# Altium footprint library IDC-2x50_2mm.PcbLib: 1 footprints
Each footprint in its own frame and in the unit in brackets; x right, y up, seen from the top. Pads: shape width x height; smd on the part's side, far side on the other; paste and mask are expansions set on the pad; w line width, h text height; cw(c..) or ccw(c..) is an arc to the next point about the centre after c.
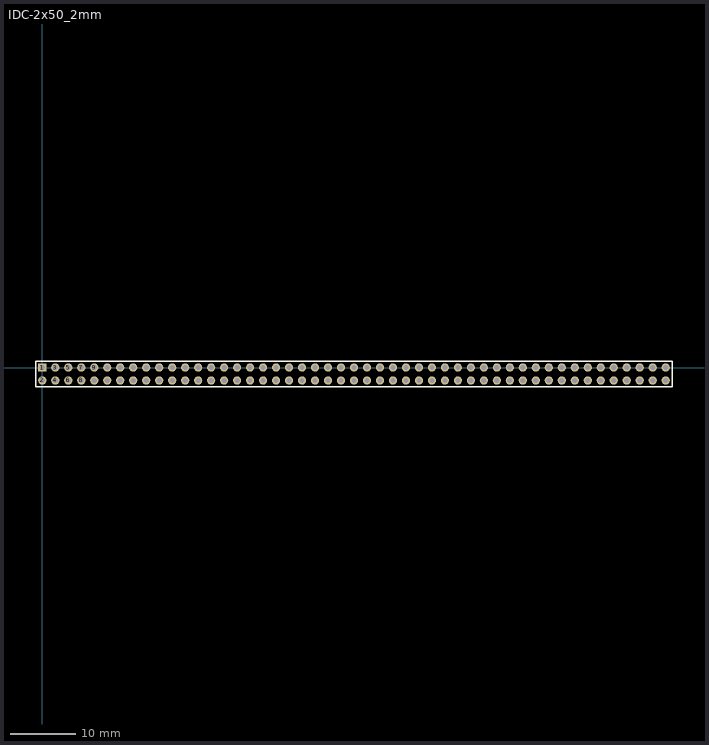
[diagram p0: the footprint, top view; thin cyan lines are the x and y axes]

## IDC-2x50_2mm [mm]
pads (98):
  rect 1.27x1.27 hole 0.813: 1(0,0)
  round 1.27 hole 0.813: 2(0,-2) 3(2,0) 4(2,-2) 5(4,0) 6(4,-2) 7(6,0) 8(6,-2) 9(8,0) 10(8,-2) 11(10,0) 12(10,-2) 13(12,0) 14(12,-2) 15(14,0) 16(14,-2) 17(16,0) 18(16,-2) 19(18,0) 20(18,-2) 21(20,0) 22(20,-2) 23(22,0) 24(22,-2) 25(24,0) 26(24,-2) 27(26,0) 28(26,-2) 29(28,0) 30(28,-2) 31(30,0) 32(30,-2) 33(32,0) 34(32,-2) 35(34,0) 36(34,-2) 37(36,0) 38(36,-2) 39(38,0) 40(38,-2) 41(40,0) 42(40,-2) 43(42,0) 44(42,-2) 45(44,0) 46(44,-2) 47(46,0) 48(46,-2) 49(48,0) 50(48,-2) 51(50,0) 52(50,-2) 53(52,0) 54(52,-2) 55(54,0) 56(54,-2) 57(56,0) 58(56,-2) 59(58,0) 60(58,-2) 61(60,0) 62(60,-2) 63(62,0) 64(62,-2) 65(64,0) 66(64,-2) 67(66,0) 68(66,-2) 69(68,0) 70(68,-2) 71(70,0) 72(70,-2) 73(72,0) 74(72,-2) 75(74,0) 76(74,-2) 77(76,0) 78(76,-2) 79(78,0) 80(78,-2) 81(80,0) 82(80,-2) 83(82,0) 84(82,-2) 85(84,0) 86(84,-2) 87(86,0) 88(86,-2) 89(88,0) 90(88,-2) 91(90,0) 92(90,-2) 93(92,0) 94(92,-2) 95(94,0) 96(94,-2) 97(96,0) 98(96,-2)
Top Overlay:
  lines w0.203: -1,-3 97,-3 97,1 -1,1 -1,-3